# Altium integrated library RClamp0544T.IntLib: 1 symbol
Pins are listed as number, name and electrical type; pins without a type are passive.

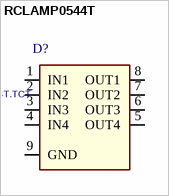
[diagram p0: symbol RCLAMP0544T]

## RCLAMP0544T
designator D?, comment RCLAMP0544T.TCT
ID: RCLAMP0544T.TCT; PDF: http://www.semtech.com/images/datasheet/rclamp0544t.pdf; PRICE: 1.12000; BUY_LINK: http://www.digikey.com/product-detail/en/RCLAMP0544T.TCT/RCLAMP0544TTCTCT-ND/4626682
footprint RCLAMP0544T
pins: 1 IN1, 2 IN2, 3 IN3, 4 IN4, 5 OUT4, 6 OUT3, 7 OUT2, 8 OUT1, 9 GND